# Altium footprint library Conn_JST_SM04B-SRSS-TB_eec_0.PcbLib: 1 footprints
Each footprint in its own frame and in the unit in brackets; x right, y up, seen from the top. Pads: shape width x height; smd on the part's side, far side on the other; paste and mask are expansions set on the pad; w line width, h text height; cw(c..) or ccw(c..) is an arc to the next point about the centre after c.
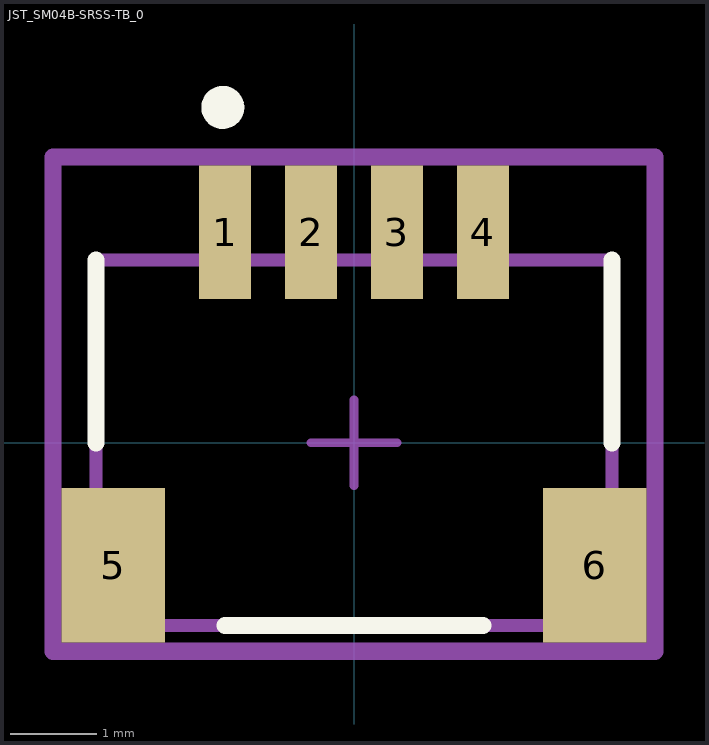
[diagram p0: the footprint, top view; thin cyan lines are the x and y axes]

## JST_SM04B-SRSS-TB_0 [mm]
pads (6):
  rect 0.6x1.55 smd paste+0 mask+0: 1(-1.5,2.45) 2(-0.5,2.45) 3(0.5,2.45) 4(1.5,2.45)
  rect 1.2x1.8 smd paste+0 mask+0: 5(-2.8,-1.425) 6(2.8,-1.425)
Top Overlay:
  circle w0.25: c-1.525,3.9 r0.125
  lines w0.2: -3,0 -3,2.125 ; -1.5,-2.125 1.5,-2.125 ; 3,0 3,2.125
Mechanical 10:
  lines w0.2: -3.5,-2.425 3.5,-2.425 3.5,3.325 -3.5,3.325 -3.5,-2.425
  text ".Designator" at 0,0.45 h1
Mechanical 12:
  lines w0.15: -3,-2.125 3,-2.125 3,2.125 -3,2.125 -3,-2.125
Mechanical 15:
  lines w0.1: -0.5,0 0.5,0 -0.5,0 ; 0,-0.5 0,0.5 0,-0.5
  lines w0.2: -3.5,-2.425 3.5,-2.425 3.5,3.325 -3.5,3.325 -3.5,-2.425
3D body "3dmodel.step": height 0.25, standoff 0, extent -3.5,-2.425 3.5,3.325